# Altium schematic symbol library Schlib1.SchLib: 64 symbols
Pins are listed as number, name and electrical type; pins without a type are passive.

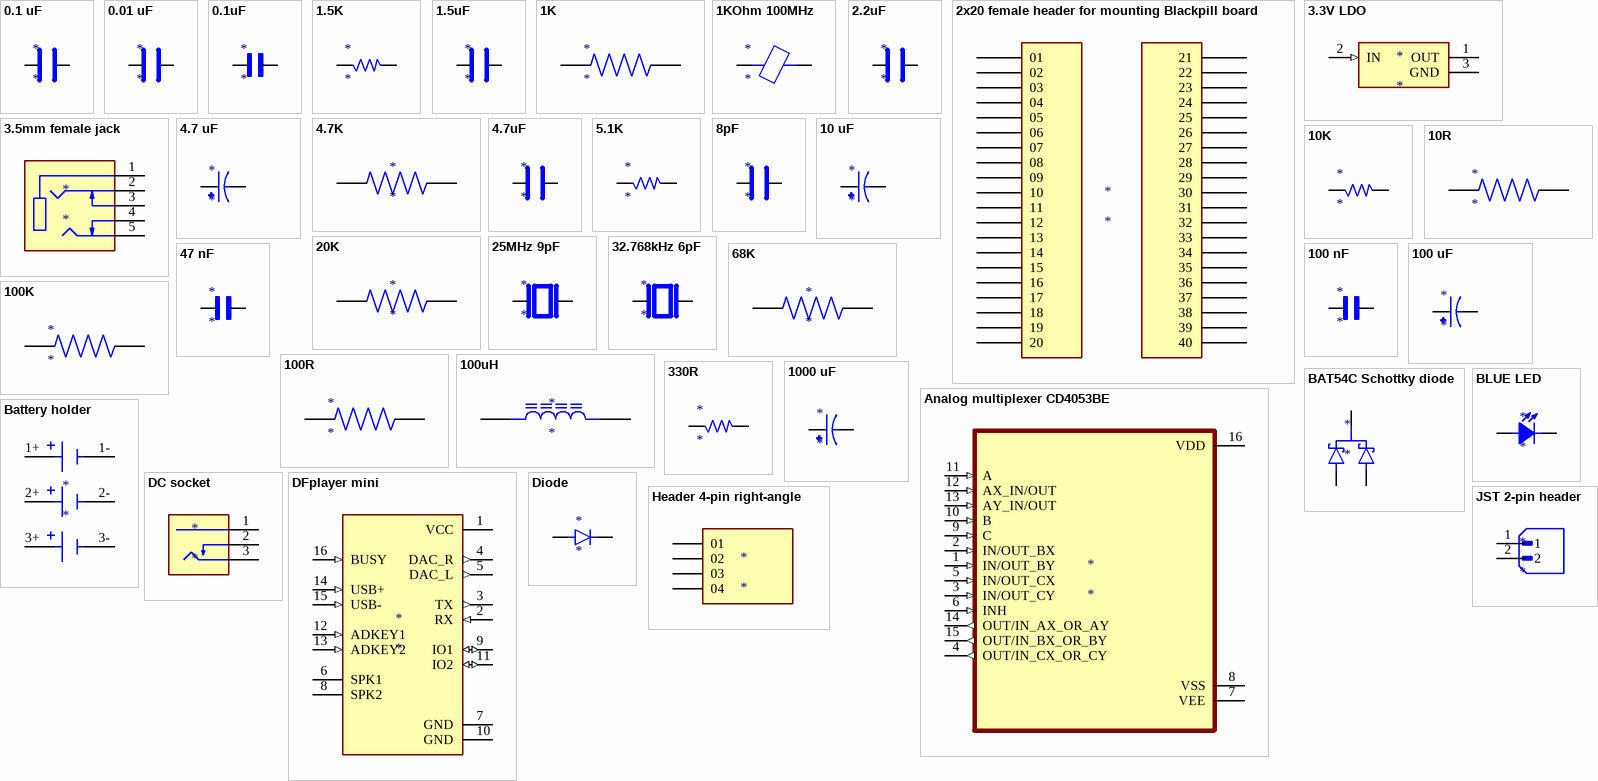
[diagram p0: symbols 0.1 uF to JST 2-pin header]

## 0.1 uF
designator *
footprint CAP-CER-0603 (Chip Capacitor, 2-Leads, Body 1.60x0.80mm, IPC Medium Density)
pins: 1, 2

## 0.01 uF
designator *
footprint CAP-CER-0603 (Chip Capacitor, 2-Leads, Body 1.60x0.80mm, IPC Medium Density)
pins: 1, 2

## 0.1uF
designator *
footprint CAPRR254W54L381T254H466
pins: 1, 2

## 1.5K
designator *
footprint RES-SMD-0603 (Chip Resistor, 2-Leads, Body 1.60x0.80mm, IPC Medium Density)
pins: 1, 2

## 1.5uF
designator *
footprint CAP-CER-0603 (Chip Capacitor, 2-Leads, Body 1.60x0.80mm, IPC Medium Density)
pins: 1, 2

## 1K
designator *
footprint RESAD1100W55L680D260
pins: 1, 2

## 1KOhm 100MHz
designator *
footprint FERRITE-0603 (Chip Inductor, 2-Leads, Body 1.60x0.80mm, IPC Medium Density)
pins: 1, 2

## 2.2uF
designator *
footprint CAP-CER-0603 (Chip Capacitor, 2-Leads, Body 1.60x0.80mm, IPC Medium Density)
pins: 1, 2

## 2x20 female header for mounting Blackpill board
designator *
footprint Blackpill board mounting headers
pins: 1 01, 2 02, 3 03, 4 04, 5 05, 6 06, 7 07, 8 08, 9 09, 10, 11, 12, 13, 14, 15, 16, 17, 18, 19, 20, 21, 22, 23, 24, 25, 26, 27, 28, 29, 30, 31, 32, 33, 34, 35, 36, 37, 38, 39, 40

## 3.3V LDO
designator *
footprint SOT23-3
pins: 1 OUT (power), 2 IN (in), 3 GND (power)

## 3.5mm female jack
designator *
footprint CLIFF_FC68133
pins: 1, 2, 3, 4, 5

## 4.7 uF
designator *
footprint CAPPRD200W50D500H1100
pins: N, P

## 4.7K
designator *
footprint RESAD1100W55L680D260
pins: 1, 2

## 4.7uF
designator *
footprint CAP-CER-0603 (Chip Capacitor, 2-Leads, Body 1.60x0.80mm, IPC Medium Density)
pins: 1, 2

## 5.1K
designator *
footprint RES-SMD-0603 (Chip Resistor, 2-Leads, Body 1.60x0.80mm, IPC Medium Density)
pins: 1, 2

## 8pF
designator *
footprint CAP-CER-0603 (Chip Capacitor, 2-Leads, Body 1.60x0.80mm, IPC Medium Density)
pins: 1, 2

## 10 uF
designator *
footprint CAPPRD200W50D500H1100
pins: N, P

## 10K
designator *
footprint RES-SMD-0603 (Chip Resistor, 2-Leads, Body 1.60x0.80mm, IPC Medium Density)
pins: 1, 2

## 10R
designator *
footprint RESAD1100W55L680D260
pins: 1, 2

## 20K
designator *
footprint RESAD1100W55L680D260
pins: 1, 2

## 25MHz 9pF
designator *
footprint XTAL_SXT2249BB16-25.000MT
pins: 1, 3

## 32.768kHz 6pF
designator *
footprint XTAL_CM8V-T1A-32.768KHZ-6PF-20PPM-TA-QC
pins: 1, 2

## 47 nF
designator *
footprint CAPRR254W50L508T317H508
pins: 1, 2

## 68K
designator *
footprint RESAD1100W55L680D260
pins: 1, 2

## 100 nF
designator *
footprint CAPRR254W54L381T254H466
pins: 1, 2

## 100 uF
designator *
footprint CAPPRD250W50D630H1120
pins: N, P

## 100K
designator *
footprint RESAD1100W55L680D260
pins: 1, 2

## 100R
designator *
footprint RESAD1100W55L680D260
pins: 1, 2

## 100uH
designator *
footprint IND_RLB9012-101KL
pins: 1, 2

## 330R
designator *
footprint RES-SMD-0603 (Chip Resistor, 2-Leads, Body 1.60x0.80mm, IPC Medium Density)
pins: 1, 2

## 1000 uF
designator *
footprint CAPPRD500W60D1000H2500
pins: N, P

## Analog multiplexer CD4053BE
designator *
footprint DIP_16
pins: 1 IN/OUT_BY (in), 2 IN/OUT_BX (in), 3 IN/OUT_CY (in), 4 OUT/IN_CX_OR_CY (out), 5 IN/OUT_CX (in), 6 INH (in), 7 VEE (power), 8 VSS (power), 9 C (in), 10 B (in), 11 A (in), 12 AX_IN/OUT (in), 13 AY_IN/OUT (in), 14 OUT/IN_AX_OR_AY (out), 15 OUT/IN_BX_OR_BY (out), 16 VDD (power)

## BAT54C Schottky diode
designator *
footprint SOT95P237X112-3N
pins: 1, 2, 3

## Battery holder
designator *
footprint BAT_BK-18650-PC6
pins: 1+, 1-, 2+, 2-, 3+, 3-

## BLUE LED
designator *
footprint LED-SMD-0603
pins: 1 A, 2 K

## DC socket
designator *
footprint GRAVITECH_CON-SOCJ-2155
pins: 1, 2, 3

## DFplayer mini
designator *
footprint MODULE_DFR0299
pins: 1 VCC (power), 2 RX (in), 3 TX (out), 4 DAC_R (out), 5 DAC_L (out), 6 SPK1, 7 GND (power), 8 SPK2, 9 IO1 (io), 10 GND (power), 11 IO2 (io), 12 ADKEY1 (in), 13 ADKEY2 (in), 14 USB+ (in), 15 USB- (in), 16 BUSY (in)

## Diode
designator *
footprint DIOM5227X270N
pins: A, C K

## Header 4-pin right-angle
designator *
footprint SAMTEC_HTSW-104-08-G-S-RA
pins: 01, 02, 03, 04

## JST 2-pin header
designator *
footprint JST_B2B-XH-A
pins: 1, 2

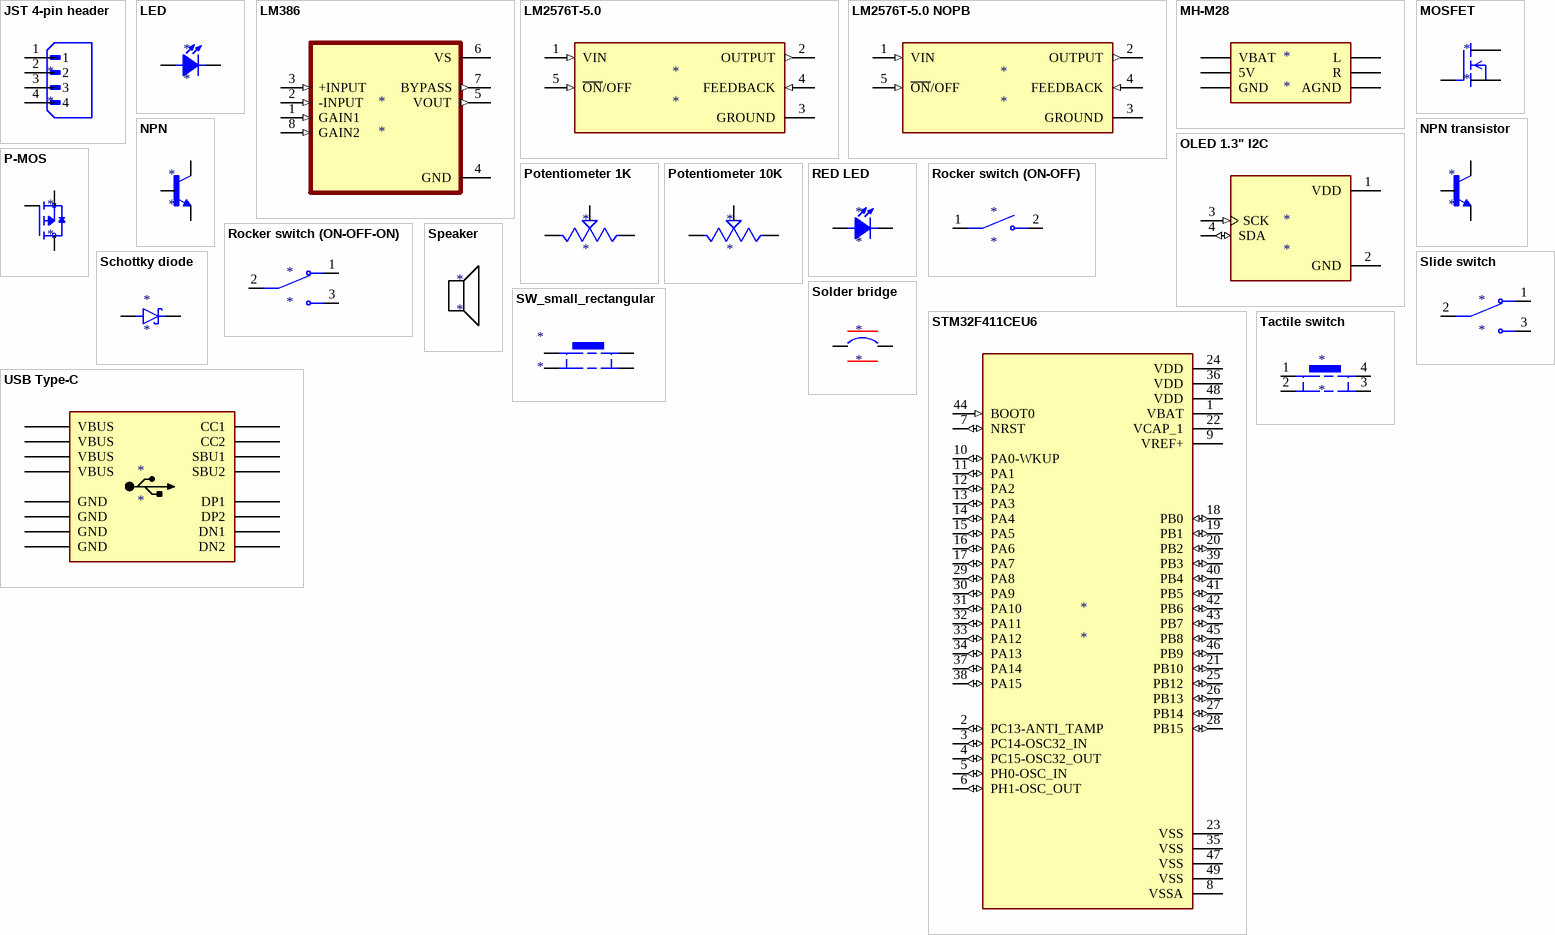
[diagram p1: symbols JST 4-pin header to USB Type-C]

## JST 4-pin header
designator *
footprint JST_B4B-XH-A
pins: 1, 2, 3, 4

## LED
designator *
footprint LED-TH-2.54mm
pins: 1 A, 2 K

## LM386
designator *
footprint DIP_8
pins: 1 GAIN1 (in), 2 -INPUT (in), 3 +INPUT (in), 4 GND (power), 5 VOUT (out), 6 VS (power), 7 BYPASS (out), 8 GAIN2 (in)

## LM2576T-5.0
designator *
footprint TO170P1067X483X1651-5 - more spacing
pins: 1 VIN (in), 2 OUTPUT (out), 3 GROUND (power), 4 FEEDBACK (in), 5 ~{ON}/OFF (in)

## LM2576T-5.0 NOPB
designator *
footprint TO170P1067X483X1651-5
pins: 1 VIN (in), 2 OUTPUT (out), 3 GROUND (power), 4 FEEDBACK (in), 5 ~{ON}/OFF (in)

## MH-M28
designator *
footprint MH-M28
pins: 5V, AGND, GND, L, R, VBAT

## MOSFET
designator *
footprint TO92127P495H495-3
pins: 1 SRC, 2 GATE, 3 DRN

## NPN
designator *
footprint TO92254P460H750-3
pins: 1 E, 2 B, 3 C

## NPN transistor
designator *
footprint TO92127P495H495-3
pins: 1 E, 2 B, 3 C

## OLED 1.3" I2C
designator *
footprint LCD_OLED_128X64_1.3_I2C
pins: 1 VDD (power), 2 GND (power), 3 SCK (in), 4 SDA (io)

## P-MOS
designator *
footprint TO254P1067X483X2286-3
pins: 1 G, 2 D, 3 S

## Potentiometer 1K
designator *
footprint TRIM_WH148-1A-2-18T-L20
pins: 1, 2, 3

## Potentiometer 10K
designator *
footprint TRIM_WH148-1A-2-18T-L20
pins: 1, 2, 3

## RED LED
designator *
footprint LED-SMD-0603
pins: 1 A, 2 K

## Rocker switch (ON-OFF)
designator *
footprint Rocker switch (ON-OFF)
pins: 1, 2

## Rocker switch (ON-OFF-ON)
designator *
footprint Rocker switch (ON-OFF-ON)
pins: 1, 2, 3

## Schottky diode
designator *
footprint DIOAD1039W78L463D236
pins: 1 K, 2 A

## Slide switch
designator *
footprint SW_SLW-1276864-4A-D
pins: 1, 2, 3

## Solder bridge
designator *
footprint SOLDER_BRIDGE
pins: 1, 2

## Speaker
designator *
footprint 50mm speaker

## STM32F411CEU6
designator *
footprint QFN50P700X700X60-49N
pins: 1 VBAT (power), 2 PC13-ANTI_TAMP (io), 3 PC14-OSC32_IN (io), 4 PC15-OSC32_OUT (io), 5 PH0-OSC_IN (io), 6 PH1-OSC_OUT (io), 7 NRST (io), 8 VSSA (power), 9 VREF+ (power), 10 PA0-WKUP (io), 11 PA1 (io), 12 PA2 (io), 13 PA3 (io), 14 PA4 (io), 15 PA5 (io), 16 PA6 (io), 17 PA7 (io), 18 PB0 (io), 19 PB1 (io), 20 PB2 (io), 21 PB10 (io), 22 VCAP_1 (power), 23 VSS (power), 24 VDD (power), 25 PB12 (io), 26 PB13 (io), 27 PB14 (io), 28 PB15 (io), 29 PA8 (io), 30 PA9 (io), 31 PA10 (io), 32 PA11 (io), 33 PA12 (io), 34 PA13 (io), 35 VSS (power), 36 VDD (power), 37 PA14 (io), 38 PA15 (io), 39 PB3 (io), 40 PB4 (io), 41 PB5 (io), 42 PB6 (io), 43 PB7 (io), 44 BOOT0 (in), 45 PB8 (io), 46 PB9 (io), 47 VSS (power), 48 VDD (power), 49 VSS (power)

## SW_small_rectangular
designator *
footprint SW_SKRPACE010
pins: 1, 2, 3, 4

## Tactile switch
designator *
footprint Tactice-Switch-TH-12x12
pins: 1, 2, 3, 4

## USB Type-C
designator *
footprint TYPE-C-16POS
pins: A1_B12 GND, A1_B12 GND, A4_B9 VBUS, A4_B9 VBUS, A5 CC1, A6 DP1, A7 DN1, A8 SBU1, A9_B4 VBUS, A9_B4 VBUS, A12_B1 GND, A12_B1 GND, B5 CC2, B6 DP2, B7 DN2, B8 SBU2